# EAGLE library part CD74HC4053PW (library xess)
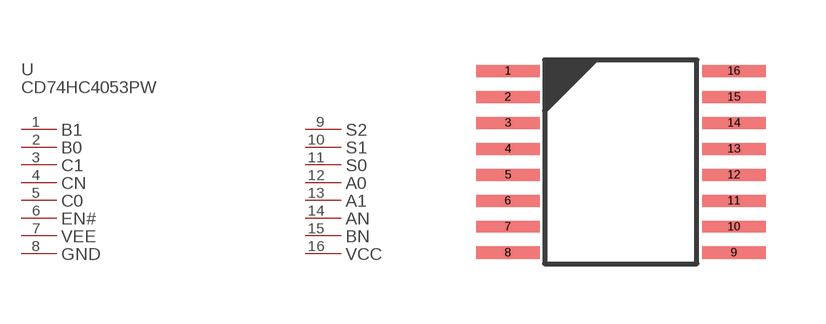
[diagram p112: symbol with the pads of CD74HC4053PW; footprint CD74HC4053PW]

Designator prefix U; gates PART_VALUE=PART_VALUE-CD74HC4053PW B1=PL-CD74HC4053PW B0=PL-CD74HC4053PW C1=PL-CD74HC4053PW CN=PL-CD74HC4053PW C0=PL-CD74HC4053PW EN#=PL-CD74HC4053PW VEE=PL-CD74HC4053PW GND=PL-CD74HC4053PW S2=PL-CD74HC4053PW S1=PL-CD74HC4053PW S0=PL-CD74HC4053PW A0=PL-CD74HC4053PW A1=PL-CD74HC4053PW AN=PL-CD74HC4053PW BN=PL-CD74HC4053PW VCC=PL-CD74HC4053PW

## CD74HC4053PW  [CD74HC4053PW]
1  B1:P$1
2  B0:P$1
3  C1:P$1
4  CN:P$1
5  C0:P$1
6  EN#:P$1
7  VEE:P$1
8  GND:P$1
9  S2:P$1
10  S1:P$1
11  S0:P$1
12  A0:P$1
13  A1:P$1
14  AN:P$1
15  BN:P$1
16  VCC:P$1

## Footprint CD74HC4053PW (pad centres in mm)
smd 1.59 x 0.3: 1 0,0; 2 0,-0.65; 3 0,-1.3; 4 0,-1.95; 5 0,-2.6; 6 0,-3.25; 7 0,-3.9; 8 0,-4.55; 9 5.65,-4.55; 10 5.65,-3.9; 11 5.65,-3.25; 12 5.65,-2.6; 13 5.65,-1.95; 14 5.65,-1.3; 15 5.65,-0.65; 16 5.65,0